# Altium footprint library xEV_Flyback20W.PcbLib: 42 footprints (part 3 of 3)
Each footprint in its own frame and in the unit in brackets; x right, y up, seen from the top. Pads: shape width x height; smd on the part's side, far side on the other; paste and mask are expansions set on the pad; w line width, h text height; cw(c..) or ccw(c..) is an arc to the next point about the centre after c.
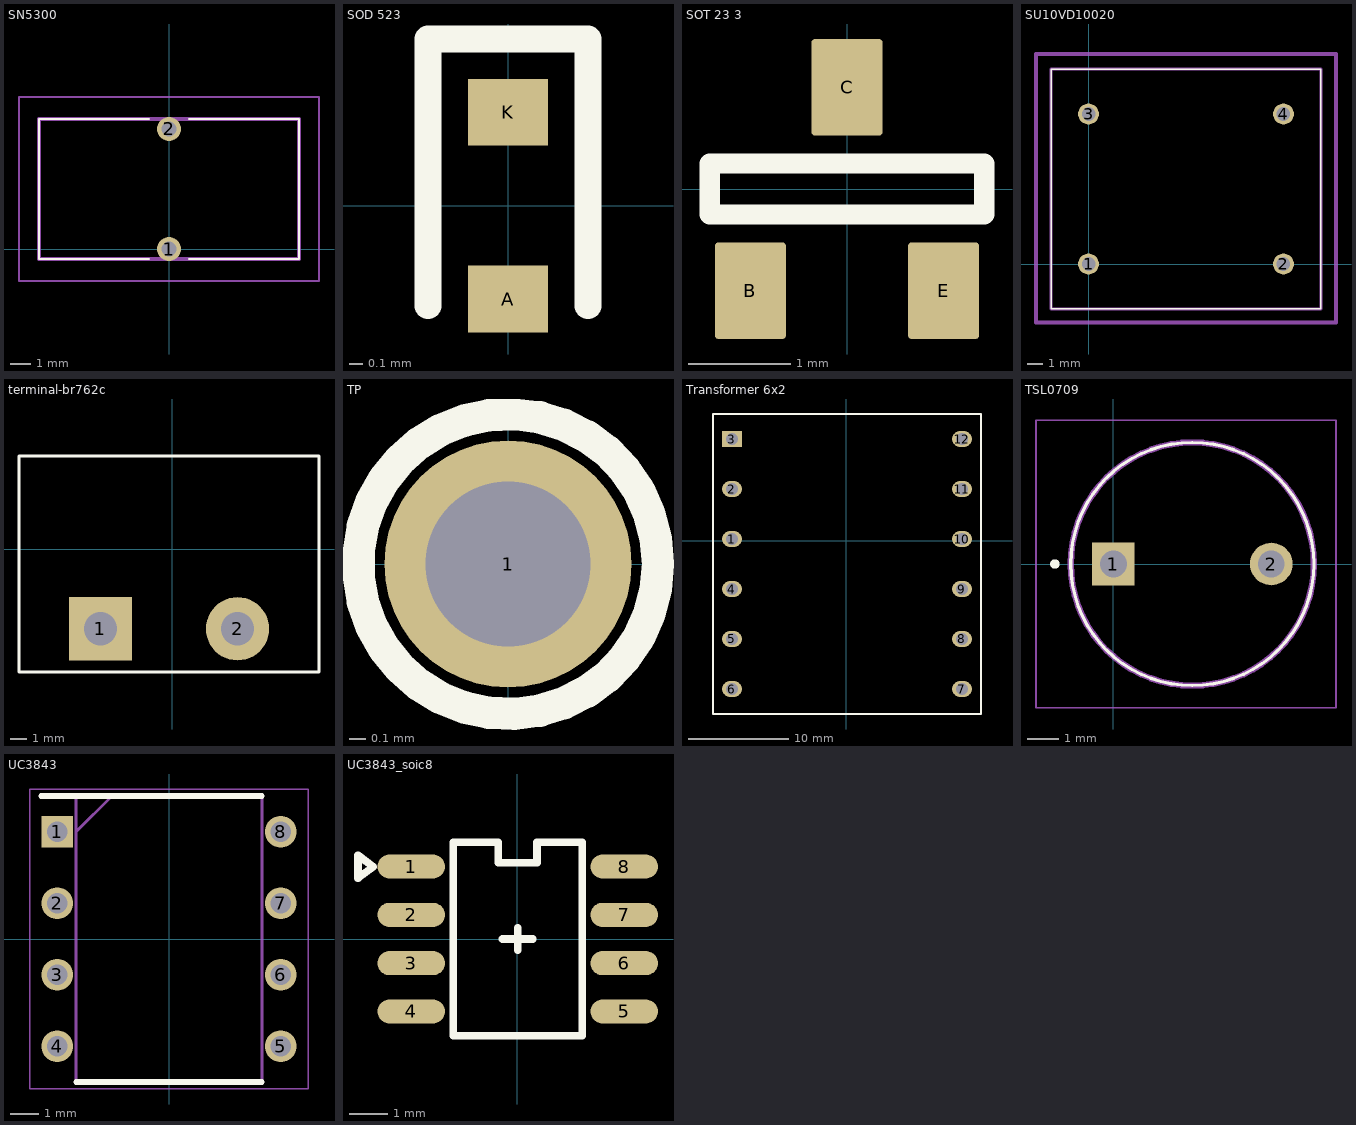
[diagram p2: the footprints below, top view; thin cyan lines are the x and y axes]

## SN5300 [mm]
pads (2):
  round 1.2 hole 0.75: 1(0,0) 2(0,6)
Top Overlay:
  lines w0.1: -1,-0.5 -6.5,-0.5 -6.5,6.5 -1,6.5 ; 1,-0.5 6.5,-0.5 6.5,6.5 1,6.5
Mechanical 13:
  lines w0.2: -6.5,-0.5 6.5,-0.5 6.5,6.5 -6.5,6.5 -6.5,-0.5
Mechanical 15:
  lines w0.1: -7.5,-1.6 -7.5,7.6 7.5,7.6 7.5,-1.6 -7.5,-1.6
3D body "SN5-300.stp": height 11.5, standoff -20.25, extent -6.5,-0.5 6.5,6.5

## SOD 523 [mm]
pads (2):
  rect 0.6x0.5 smd: A(0,-0.7) K(0,0.7)
Top Overlay:
  lines w0.2: -0.6,-0.75 -0.6,1.25 0.6,1.25 0.6,-0.75
3D body "BZX585-B5V6_115.step": height 0.65, standoff 0, extent -0.4,-0.8 0.4,0.8

## SOT 23 3 [mm]
pads (3):
  rrect10% 0.7x0.95 smd: B(-0.95,-1) C(0,1) E(0.95,-1)
Top Overlay:
  lines w0.2: -1.35,-0.25 1.35,-0.25 1.35,0.25 -1.35,0.25 -1.35,-0.25
3D body "SMMBT3906LT1G.step": height 1.11, standoff 0, extent -1.45,-1.2 1.45,1.2

## SU10VD10020 [mm]
pads (4):
  round 1.4 hole 0.9: 1(0,0) 2(13,0) 3(0,10) 4(13,10)
Top Overlay:
  lines w0.1: -2.5,-3 -2.5,13 15.5,13 15.5,-3 -2.5,-3
Top Designator:
  lines w0.254: -3.5,-3.9 1.5,-3.9 11.5,-3.9 16.5,-3.9 16.5,14 -3.5,14 -3.5,-3.9
Mechanical 13:
  lines w0.2: -2.5,-3 -2.5,13 15.5,13 15.5,-3 -2.5,-3
Mechanical 15:
  lines w0.1: -3.5,-4 -3.5,14 16.5,14 16.5,-4 -3.5,-4
3D body "SU10VD-10020.stp": height 19.94, standoff -5.1, extent -2.498,-3.002 15.497,13.002

## terminal-br762c [mil]
pads (2):
  rect 150x150 hole 78.74: 1(-170,-189)
  round 150 hole 78.74: 2(154.8,-189)
Top Overlay:
  lines w8: -362.91,-291.36 -362.91,220.45 347.72,220.45 347.72,-291.36 -362.91,-291.36
3D body "barrier_block_2p.STEP": height 500.5, standoff -172.66, extent -358.27,-281.5 322.83,218.5

## TP [mil] "Test Point"
pads (1):
  round 60 hole 40.16: 1(0,0)
Top Overlay:
  circle w7.87: c0,0 r36.4
3D body "User Library-TEST POINT YEL Keystone 5004.STEP": height 192.34, standoff -121.02, extent -50,-50 50,50

## Transformer 6x2 [mm]
pads (12):
  oval 2x1.6 hole 1.2: 1(-11.43,0.16) 2(-11.43,5.16) 4(-11.43,-4.84) 5(-11.43,-9.84) 6(-11.43,-14.84) 7(11.57,-14.84) 8(11.57,-9.84) 9(11.57,-4.84) 10(11.57,0.16) 11(11.57,5.16) 12(11.57,10.16)
  rect 2x1.6 hole 1.2: 3(-11.43,10.16)
Top Overlay:
  lines w0.2: 1.27,12.66 -13.33,12.66 -13.33,-17.34 13.47,-17.34 13.47,12.66 1.32,12.66

## TSL0709 [mm]
pads (2):
  rect 1.35x1.35 hole 0.85: 1(0,0)
  round 1.35 hole 0.85: 2(5,0)
Top Overlay:
  circle w0.2: c-1.85,0 r0.05
  lines w0.1: 2.5,-3.85 cw(c2.5,0) 2.5,3.85 cw(c2.5,0) 2.5,-3.85
Mechanical 13:
  lines w0.2: 2.5,-3.85 cw(c2.5,0) 2.5,3.85 cw(c2.5,0) 2.5,-3.85
Mechanical 15:
  lines w0.05: -2.45,-4.55 -2.45,4.55 7.05,4.55 7.05,-4.55 -2.45,-4.55
3D body "TSL0709RA-330K1R0-PF.stp": height 9.45, standoff -5.05, extent -1.38,-3.85 6.32,3.85

## UC3843 [mm]
pads (8):
  rect 1.13x1.13 hole 0.73: 1(-3.97,3.81)
  round 1.13 hole 0.73: 2(-3.97,1.27) 3(-3.97,-1.27) 4(-3.97,-3.81) 5(3.97,-3.81) 6(3.97,-1.27) 7(3.97,1.27) 8(3.97,3.81)
Top Overlay:
  lines w0.2: -4.535,5.08 3.3,5.08 ; -3.3,-5.08 3.3,-5.08
Mechanical 13:
  lines w0.1: -3.3,3.81 -2.03,5.08 ; -3.3,-5.08 3.3,-5.08 3.3,5.08 -3.3,5.08 -3.3,-5.08
Mechanical 15:
  lines w0.05: -4.945,-5.33 4.945,-5.33 4.945,5.33 -4.945,5.33 -4.945,-5.33
3D body "UC3843N.stp": height 4.21, standoff -3.37, extent -4.102,-4.635 4.102,4.635

## UC3843_soic8 [mil] "SOIC8"
pads (8):
  oval 70x25 smd: 1(-109.96,75.16) 2(-109.96,25.16) 3(-109.96,-24.84) 4(-109.96,-74.84) 5(110.51,-74.84) 6(110.51,-24.84) 7(110.51,25.16) 8(110.51,75.16)
Top Overlay:
  lines w7.87: -15.47,0.16 16.02,0.16 ; 0.28,-11.65 0.28,11.97 ; -165.08,63.15 -165.08,86.77 -149.33,74.96 -165.08,63.15 ; -66.65,-99.84 -66.65,100.16 -19.72,100.16 -19.72,78.9 20.28,78.9 20.28,100.16 67.2,100.16 67.2,-99.84 -66.65,-99.84
3D body "NE555DR.stp": height 68.9, standoff 0, extent -116.93,-96.45 119.29,96.46